# Altium schematic symbol library TC7WH123FU_FK.Schlib: 1 symbol
Pins are listed as number, name and electrical type; pins without a type are passive.

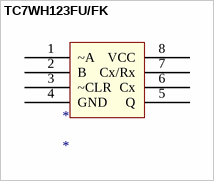
[diagram p0: symbol TC7WH123FU/FK]

## TC7WH123FU/FK
designator *
pins: 1 ~A, 2 B, 3 ~CLR, 4 GND, 5 Q, 6 Cx, 7 Cx/Rx, 8 VCC